# Altium schematic symbol library HyTechDevices.SCHLIB: 241 symbols (part 2 of 4)
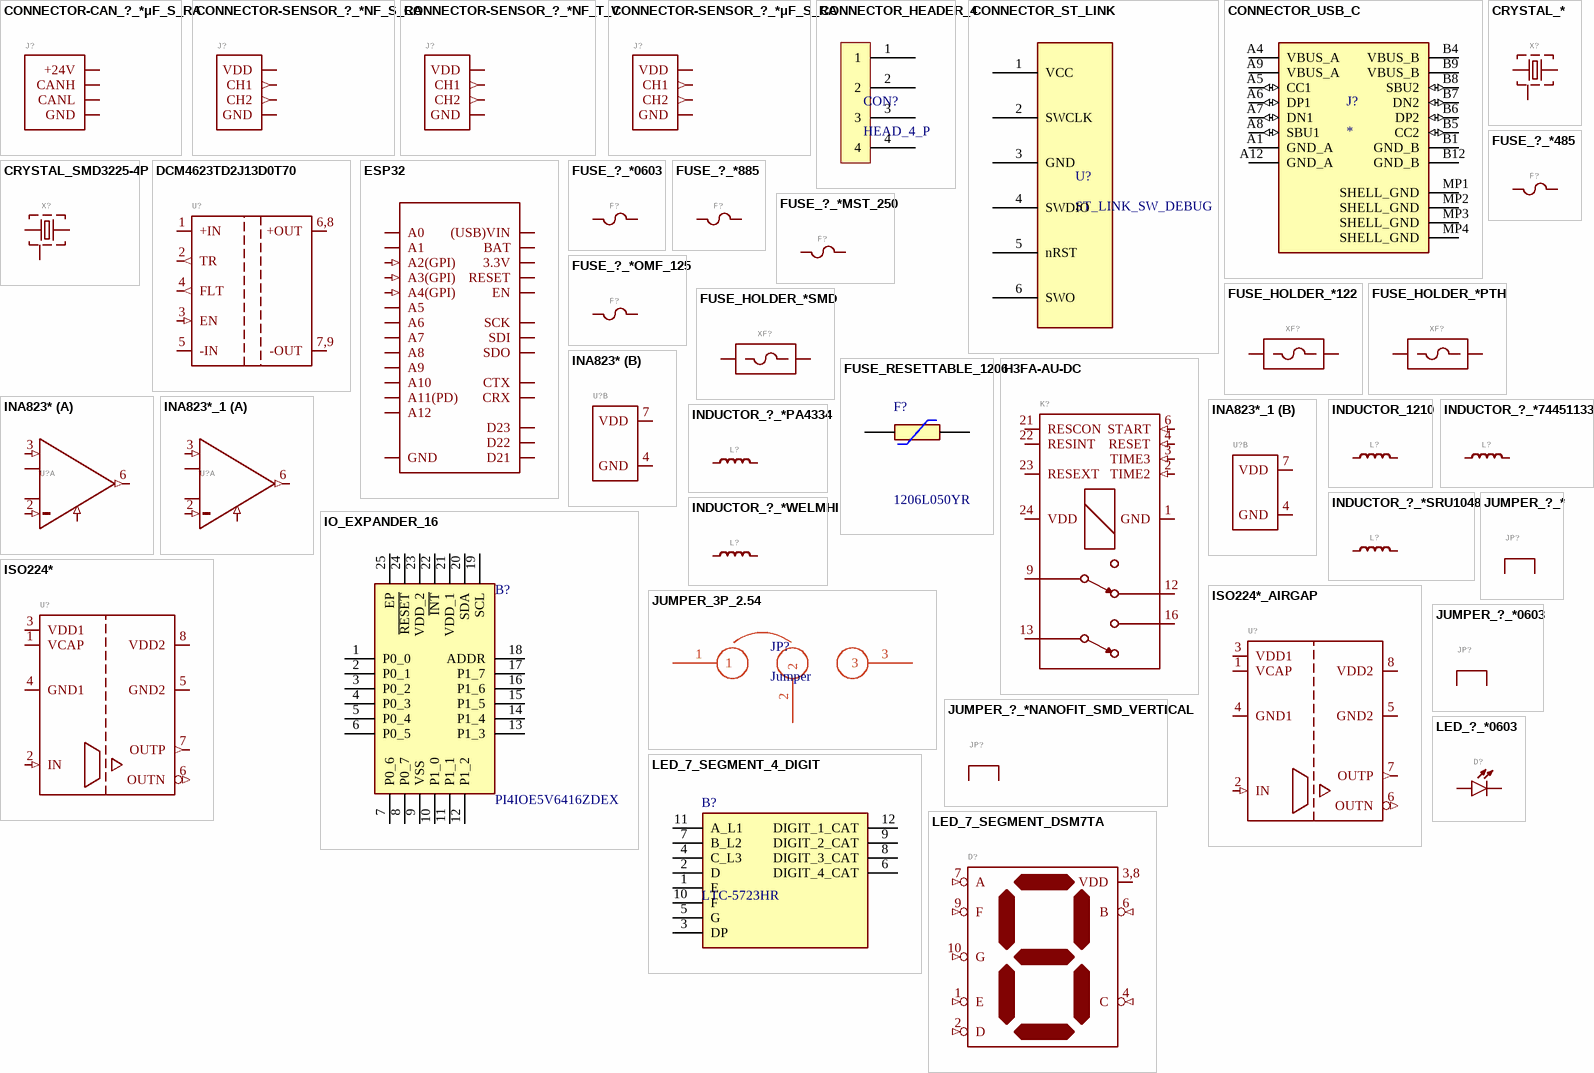
[diagram p8: symbols CONNECTOR-CAN_?_*μF_S_RA to LED_?_*0603]

## INA823*_1
designator U?, comment INA823 Precision, Low-Power, Wide-Supply (2.7-V to 36-V) Instrumentation Amplifier  Datasheet  (value not drawn)
MANUFACTURER: Texas Instruments; MPN: INA823DT; GateName_1: A; SymbolName_1: OPAMP-1; GateName_2: P; SymbolName_2: PWR_GND; DeviceSetName: INA823*; DKPN: 296-INA823DTCT-ND; MOPN: 595-INA823DT; LibraryName: HyTechDevices; Package: SOIC-08(NARROW,0.15")
footprint SOIC-08(NARROW,0.15")
part A pins: 1 RG1 (io), 2 VIN- (in), 3 VIN+ (in), 5 VREF (in), 6 VOUT (out), 8 RG2 (io)
part B pins: 4 GND (power), 7 VDD (power)

## INDUCTOR_1210
designator L?
MANUFACTURER: Wurth Elektronik; MPN: 74437349560; GateName_1: G$1; SymbolName_1: INDUCTOR; DeviceName: WELMHI; DeviceSetName: INDUCTOR_?_*; CURRENT_RATED: 1.4A; CURRENT_SATURATION: 2A; DCR: 342mΩ; DKPN: 732-11454-2-ND; INDUCTANCE: 56µH; MOPN: 710-74437349560; TOLERANCE: 20%; LibraryName: HyTechDevices; Package: WE-LMHI
footprint 1210_IND (Inductor of 1210 Case  Size)
pins: 1, 2

## INDUCTOR_?_*74451133
designator L?, comment Inductor  LQM18DH100M70 Datasheet   74451133 Datasheet  SRU1408 Datasheet  PA4334 Datasheet  WE-LMHI Datasheet  (value not drawn)
MANUFACTURER: Pulse Electronics Power; MPN: PA4334.362NLT; MANUFACTURER: Würth Elektronik; MPN: 74437349560; GateName_1: G$1; DeviceSetName: INDUCTOR_?_*; CURRENT_RATED: 1.6A; CURRENT_SATURATION: 1A; DCR: 0.13Ω; DKPN: 553-3508-2-ND; INDUCTANCE: 3.6μH; MOPN: 673-PA4334362NLT; TOLERANCE: 20%; CURRENT_RATED: 0.6A; CURRENT_SATURATION: 0.15A; DCR: 0.19Ω; DKPN: 732-1410-1-ND; INDUCTANCE: 33µH; MOPN: 710-74451133; CURRENT_RATED: 1.4A; DCR: 0.342Ω; DKPN: 732-11454-2-ND; INDUCTANCE: 56μH; MOPN: 710-74437349560; TOLERANCE: 10%; SymbolName_1: INDUCTOR; DeviceName: 74451133; LibraryName: HyTechDevices; Package: 74451133; MPN: 74451133; CURRENT_SATURATION: 1.4A
footprint 74451133
pins: 1, 2

## INDUCTOR_?_*PA4334
designator L?, comment Inductor  LQM18DH100M70 Datasheet   74451133 Datasheet  SRU1408 Datasheet  PA4334 Datasheet  WE-LMHI Datasheet  (value not drawn)
MANUFACTURER: Murata Electronics; MPN: LQM18DH100M70L; MANUFACTURER: Pulse Electonics Company; MPN: PA4334.362NLT; GateName_1: G$1; DeviceSetName: INDUCTOR_?_*; CURRENT_RATED: 300mA; CURRENT_SATURATION: 100mA; DCR: 1.37Ω; DKPN: 490-LQM18DH100M70LTR-ND; INDUCTANCE: 10µH; MOPN: 81-LQM18DH100M70L; TOLERANCE: 20%; CURRENT_RATED: 1.6A; CURRENT_SATURATION: 1A; DCR: 0.13Ω; DKPN: 553-3508-2-ND; INDUCTANCE: 3.6µH; MOPN: 673-PA4334362NLT; SymbolName_1: INDUCTOR; DeviceName: PA4334; LibraryName: HyTechDevices; Package: PA4334
footprint PA4334
pins: 1, 2

## INDUCTOR_?_*SRU1048
designator L?, comment Inductor  LQM18DH100M70 Datasheet   74451133 Datasheet  SRU1408 Datasheet  PA4334 Datasheet  WE-LMHI Datasheet  (value not drawn)
MANUFACTURER: Bourns Inc.; MPN: SRU1048-331Y; GateName_1: G$1; DeviceName: SRU1048; DeviceSetName: INDUCTOR_?_*; CURRENT_RATED: 0.65A; CURRENT_SATURATION: 0.52A; DCR: 0.640Ω; DKPN: SRU1048-331YTR-ND; INDUCTANCE: 330µH; MOPN: 652-SRU1048-331Y; TOLERANCE: 30%; SymbolName_1: INDUCTOR; LibraryName: HyTechDevices; Package: SRU1048
footprint SRU1048
pins: 1, 2

## INDUCTOR_?_*WELMHI
designator L?, comment Inductor  LQM18DH100M70 Datasheet   74451133 Datasheet  SRU1408 Datasheet  PA4334 Datasheet  WE-LMHI Datasheet  (value not drawn)
MANUFACTURER: Wurth Elektronik; MPN: 74437349560; GateName_1: G$1; DeviceName: WELMHI; DeviceSetName: INDUCTOR_?_*; CURRENT_RATED: 1.4A; CURRENT_SATURATION: 2A; DCR: 342mΩ; DKPN: 732-11454-2-ND; INDUCTANCE: 56µH; MOPN: 710-74437349560; TOLERANCE: 20%; SymbolName_1: INDUCTOR; LibraryName: HyTechDevices; Package: WE-LMHI
footprint WE-LMHI
pins: 1, 2

## IO_EXPANDER_16
designator B?, comment PI4IOE5V6416ZDEX
Interface - I/O Expanders Interface IO Expander; Manufacturer_Name: Diodes Inc.; Geometry.Height: 0.9mm; Mouser Part Number: 729-PI4IOE5V6416ZDEX; Mouser Price/Stock: https://www.mouser.co.uk/ProductDetail/Diodes-Incorporated/PI4IOE5V6416ZDEX?qs=byeeYqUIh0OndNU%2F4OrZvQ%3D%3D; Manufacturer_Part_Number: PI4IOE5V6416ZDEX; Datasheet Link: https://www.mouser.ch/datasheet/2/115/PI4IOE5V6416-1488866.pdf
footprint TQFN-24
pins: 1 P0_0, 2 P0_1, 3 P0_2, 4 P0_3, 5 P0_4, 6 P0_5, 7 P0_6, 8 P0_7, 9 VSS, 10 P1_0, 11 P1_1, 12 P1_2, 13 P1_3, 14 P1_4, 15 P1_5, 16 P1_6, 17 P1_7, 18 ADDR, 19 SCL, 20 SDA, 21 VDD_1, 22 ~{INT}, 23 VDD_2, 24 ~{RESET}, 25 EP

## ISO224*
designator U?, comment ISO224*: Isolated precision amplifier  ISO224A: Low-Grade  ISO224B: High-Grade  ISO224* Datasheet  (value not drawn)
MANUFACTURER: Texas Instruments; MPN: ISO224ADWVR; MPN: ISO224BDWVR; GateName_1: G$1; SymbolName_1: ISO224; DKPN: 296-52315-1-ND; MOPN: 595-ISO224ADWVR; DKPN: 296-52316-1-ND; MOPN: 595-ISO224BDWVR; LibraryName: HyTechDevices; DeviceSetName: ISO224*; Package: SOIC-08(WIDE,0.295")
footprint SOIC-08(WIDE,0.295")
pins: 1 VCAP, 2 IN (in), 3 VDD1 (power), 4 GND1 (power), 5 GND2 (power), 6 OUTN (out), 7 OUTP (out), 8 VDD2 (power)

## ISO224*_AIRGAP
designator U?, comment ISO224*: Isolated precision amplifier  ISO224A: Low-Grade  ISO224B: High-Grade  ISO224* Datasheet  (value not drawn)
MANUFACTURER: Texas Instruments; MPN: ISO224ADWVR; MPN: ISO224BDWVR; GateName_1: G$1; SymbolName_1: ISO224; DeviceName: _AIRGAP; DKPN: 296-52315-1-ND; MOPN: 595-ISO224ADWVR; DKPN: 296-52316-1-ND; MOPN: 595-ISO224BDWVR; LibraryName: HyTechDevices; DeviceSetName: ISO224*; Package: SOIC-08(WIDE,0.295")-AIRGAP
footprint SOIC-08(WIDE,0.295")-AIRGAP
pins: 1 VCAP, 2 IN (in), 3 VDD1 (power), 4 GND1 (power), 5 GND2 (power), 6 OUTN (out), 7 OUTP (out), 8 VDD2 (power)

## JUMPER_3P_2.54
designator JP?, comment Jumper
A standard 2.54 pitch header with three pins used as a jumper
footprint 1X03
pins: 1, 2, 3

## JUMPER_?_*
designator JP?, comment 2 Pin Connector  (value not drawn)
MANUFACTURER: Sullins Connector Solutions; MPN: PRPC002SAAN-RC; GateName_1: G$1; SymbolName_1: JUMPER; DeviceSetName: JUMPER_?_*; DKPN: S1011EC-02-ND; LibraryName: HyTechDevices; Package: 1X02
footprint 1X02
pins: 1, 2

## JUMPER_?_*0603
designator JP?, comment 2 Pin Connector  (value not drawn)
MANUFACTURER: YAGEO; MPN: RC0603FR-130RL; GateName_1: G$1; SymbolName_1: JUMPER; DeviceName: 0603; DeviceSetName: JUMPER_?_*; DKPN: 13-RC0603FR-130RLTR-ND; MOPN: 603-RC0603FR-130RL; LibraryName: HyTechDevices; Package: 0603-RES
footprint 0603-RES
pins: 1, 2

## JUMPER_?_*NANOFIT_SMD_VERTICAL
designator JP?, comment 2 Pin Connector  (value not drawn)
MANUFACTURER: Molex; MPN: 105429-1304; MPN: 105431-2302; GateName_1: G$1; SymbolName_1: JUMPER; DeviceName: NANOFIT_SMD_VERTICAL; DeviceSetName: JUMPER_?_*; DKPN: 900-1054291304TR-ND; MOPN: 538-105429-1304; DKPN: 900-1054312302TR-ND; MOPN: 538-105431-2302; LibraryName: HyTechDevices; Package: MOLEX_NANOFIT_SMD_VERTICAL_02
footprint MOLEX_NANOFIT_SMD_VERTICAL_02
pins: 1, 2

## LED_7_SEGMENT_4_DIGIT
designator B?, comment LTC-5723HR
LED Displays & Accessories 4 Digit, Red Normal Current, Common  Cathode; Manufacturer_Name: Lite-On; Manufacturer_Part_Number: LTC-4627JR; Geometry.Height: 7.25mm; Mouser Part Number: 859-LTC-4627JR; Mouser Price/Stock: https://www.mouser.co.uk/ProductDetail/Lite-On/LTC-4627JR?qs=WxFF5lh7QM3%252BoGt5Rn2nWQ%3D%3D; Datasheet Link: https://componentsearchengine.com/Datasheets/1/LTC-4627JR.pdf
footprint 7SEGMENT_DISP_12_P_TH
pins: 1 E, 2 D, 3 DP, 4 C_L3, 5 G, 6 DIGIT_4_CAT, 7 B_L2, 8 DIGIT_3_CAT, 9 DIGIT_2_CAT, 10 F, 11 A_L1, 12 DIGIT_1_CAT

## LED_7_SEGMENT_DSM7TA
designator D?, comment Low-Profile 7-Segment Display   DSM7T  Blue  DSM7T  Green <\ul>  (value not drawn)
MANUFACTURER: Visual Communications Company; MPN: DSM7TA56106T; MPN: DSM7TA56105T; GateName_1: G$1; SymbolName_1: DIODE_LED_7_SEGMENT; DeviceName: DSM7TA; DeviceSetName: LED_7_SEGMENT_; DKPN: DSM7TA56106TTR-ND; MOPN: 593-DSM7TA56106T; DKPN: DSM7TA56105TTR-ND; MOPN: 593-DSM7TA56105T; LibraryName: HyTechDevices; Package: DSM7T; COLOR: Blue; COLOR: Green
footprint DSM7T
pins: 1 E (in), 2 D (in), 3,8 VDD (power), 4 C (in), 6 B (in), 7 A (in), 9 F (in), 10 G (in)

## LED_?_*0603
designator D?, comment LED 0603  Blue  Green  Orange  Red  White  Yellow    2835 (Series not on Digikey)  Lumiled LUXEON 2835 Color Line  (value not drawn)
MANUFACTURER: Kingbright; MPN: APT1608VBC/D; MPN: APT1608ZGCK; MPN: APT1608SECK; MPN: APT1608SECK/J3-PRV; MANUFACTURER: Bivar Inc.; MPN: SM0603UWC; MPN: APT1608SYCK/J3-PRV; SymbolName_1: DIODE_LED; DeviceName: 0603; DeviceSetName: LED_?_*; DKPN: 754-1789-1-ND; MOPN: 604-APT1608VBC/D; DKPN: 754-1790-1-ND; MOPN: 604-APT1608ZGCK; DKPN: 754-1120-1-ND; MOPN: 604-APT1608SECK; DKPN: 754-1786-1-ND; MOPN: 604-APT1608SECKJ3PRV; DKPN: SM0603UWC-ND; MOPN: 749-SM0603UWC; DKPN: 754-1788-1-ND; MOPN: 604-APT1608SYCK/J3-PRV; GateName_1: LED; LibraryName: HyTechDevices; Package: 0603-LED; COLOR: Blue; COLOR: Green; COLOR: Orange; COLOR: Red; COLOR: White; COLOR: Yellow
footprint 0603-LED
pins: 1 C, 2 A

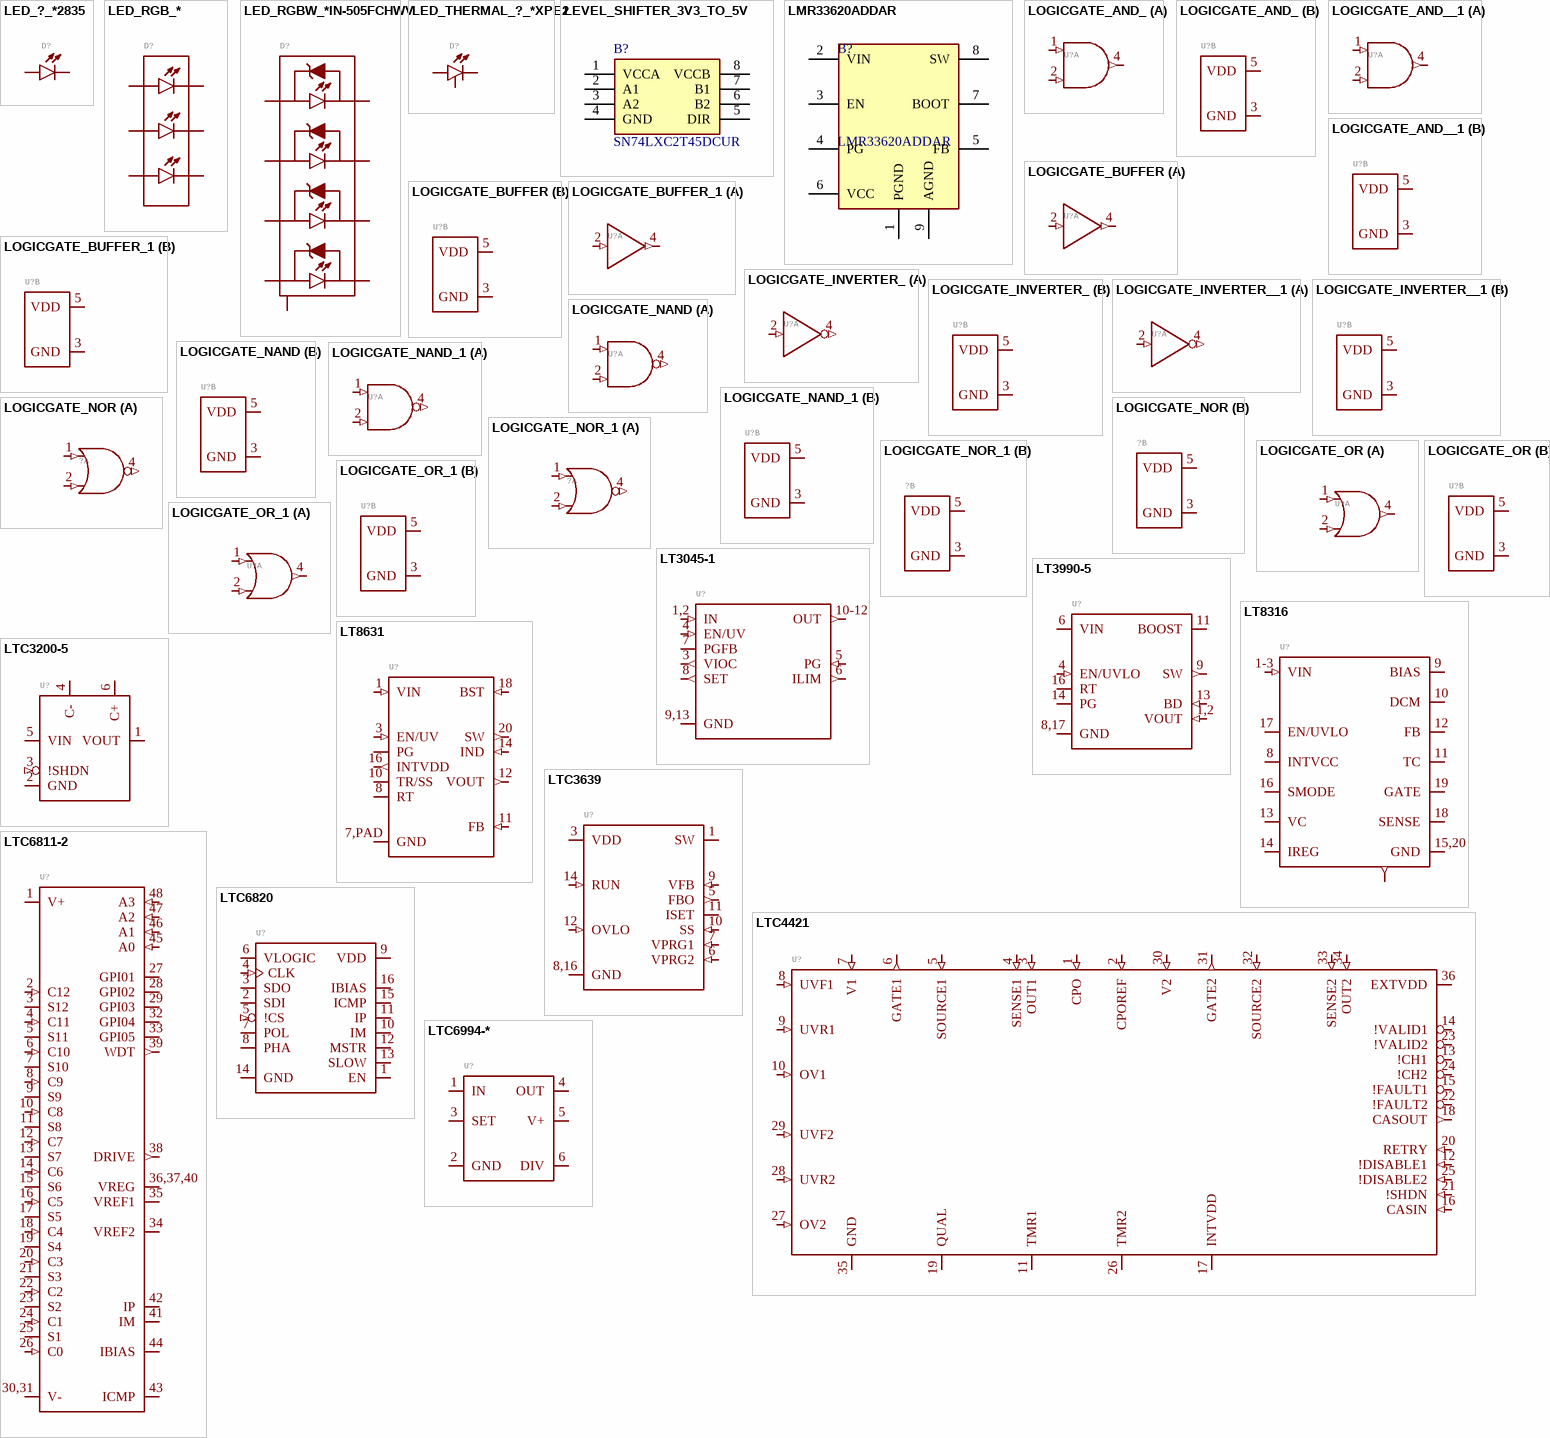
[diagram p3: symbols LED_?_*2835 to LTC6994-*]

## LED_?_*2835
designator D?, comment LED 0603  Blue  Green  Orange  Red  White  Yellow    2835 (Series not on Digikey)  Lumiled LUXEON 2835 Color Line  (value not drawn)
MANUFACTURER: Lumileds; MPN: L128-PCA1003500000; MPN: L128-BLU1003500000; MPN: L128-GRN1003500000; MPN: L128-RED1003500000; MPN: L128-RNG1003500000; SymbolName_1: DIODE_LED; DeviceName: 2835; DeviceSetName: LED_?_*; COLOR: Amber; MOPN: 997-L128PCA10350; MOPN: 997-L128BLU10350; MOPN: 997-L128GRN10350; MOPN: 997-L128RED10350; COLOR: Red-Orange; MOPN: 997-L128RNG10350; GateName_1: LED; LibraryName: HyTechDevices; Package: 2835-LED; COLOR: Blue; COLOR: Green; COLOR: Red
footprint 2835-LED
pins: A, C

## LED_RGB_*
designator D?, comment Broadcom ASMG-PT00-00001 RGB LED   Datasheet< /a>  (value not drawn)
MANUFACTURER: Broadcom Limited; GateName_1: G$1; SymbolName_1: DIODE_LED_RGB; DeviceSetName: LED_RGB_*; DKPN: 516-4178-2-ND; MOPN: 630-ASMG-PT00-00001; LibraryName: HyTechDevices; Package: ASMG-PT00-00001; COLOR: RGB; MPN: ASMG-PT00-00001
footprint ASMG-PT00-00001
pins: 1 RED-, 2 GREEN-, 3 BLUE-, 4,THERMAL RED+, 5 GREEN+, 6 BLUE+

## LED_RGBW_*IN-505FCHWV
designator D?, comment Inolux IN-505FCHWV RGBW LED   Datasheet< /a>  (value not drawn)
GateName_1: G$1; SymbolName_1: DIODE_LED_RGBW; DeviceSetName: LED_RGBW_*; DKPN: 1830-1097-2-ND; MOPN: 743-IN-505FCHWV; DeviceName: IN-505FCHWV; LibraryName: HyTechDevices; Package: IN-505FCHWV; COLOR: RGBW; MANUFACTURER: INOLUX; MPN: IN-505FCHWV
footprint IN-505FCHWV
pins: A+ RED+, A- RED-, B+ GREEN+, B- GREEN-, C+ BLUE+, C- BLUE-, D+ WHITE+, D- WHITE-, THERMAL

## LED_THERMAL_?_*XPE2
designator D?, comment LED with Thermal Pad  Cree XP-E2 Datasheet  (value not drawn)
MANUFACTURER: Cree Inc.; MPN: XPEBBL-L1-0000-00305; MPN: XPEBGR-L1-0000-00F02; MPN: XPEBRD-L1-0000-00902; MPN: XPEBAM-L1-0000-00903; GateName_1: G$1; SymbolName_1: DIODE_LED_THERMAL; DeviceName: XPE2; DeviceSetName: LED_THERMAL_?_*; COLOR: Blue; DKPN: XPEBBL-L1-0000-00305CT-ND; MOPN: 941-XPEBBLL10000305; COLOR: Green; DKPN: XPEBGR-L1-0000-00F02CT-ND; MOPN: 941-XPEBGRL10000F02; COLOR: Red; DKPN: XPEBRD-L1-0000-00902CT-ND; MOPN: 941-XPEBRDL100000902; COLOR: Yellow; DKPN: XPEBAM-L1-0000-00903CT-ND; MOPN: 941-XPEBAML10000903; LibraryName: HyTechDevices; Package: XP-E2
footprint XP-E2
pins: ANODE A, CATHODE C, X THERMAL

## LEVEL_SHIFTER_3V3_TO_5V
designator B?, comment SN74LXC2T45DCUR
Translation - Voltage Levels 2-bit dual supply transceiver with configurable voltage-level shifting and 3-state outputs; Manufacturer_Name: Texas Instruments; Geometry.Height: 0.9mm; Mouser Part Number: 595-SN74LXC2T45DCUR; Mouser Price/Stock: https://www.mouser.co.uk/ProductDetail/Texas-Instruments/SN74LXC2T45DCUR?qs=TCDPyi3sCW3DKJ9sPzuW6Q%3D%3D; Manufacturer_Part_Number: SN74LXC2T45DCUR; Datasheet Link: https://www.ti.com/lit/ds/symlink/sn74lxc2t45.pdf?ts=1639472823475&ref_url=https%253A%252F%252Fwww.ti.com%252Fproduct%252FSN74LXC2T45%253FkeyMatch%253DSN74LXC2T45DCUR%2526tisearch%253Dsearch-everything%2526usecase%253DOPN
footprint VSSOP-8
pins: 1 VCCA, 2 A1, 3 A2, 4 GND, 5 DIR, 6 B2, 7 B1, 8 VCCB

## LMR33620ADDAR
designator B?
Voltage Regulator 3.8V to 36V, 2A Synchronous Buck Converter With Ultra-Low EMI; Manufacturer_Name: Texas Instruments; Geometry.Height: 1.7mm; Mouser Part Number: 595-LMR33620ADDAR; Mouser Price/Stock: https://www.mouser.co.uk/ProductDetail/Texas-Instruments/LMR33620ADDAR?qs=r5DSvlrkXmJ%2FnOIMNwWq1Q%3D%3D; Manufacturer_Part_Number: LMR33620ADDAR; Datasheet Link: http://www.ti.com/lit/gpn/lmr33620
footprint SOIC-08(PowerPad)
pins: 1 PGND, 2 VIN, 3 EN, 4 PG, 5 FB, 6 VCC, 7 BOOT, 8 SW, 9 AGND

## LOGICGATE_AND_
designator U?, comment AND Gate  SN74LVC Datasheet  (value not drawn)
MANUFACTURER: Texas Instruments; MPN: SN74LVC1G08DCK3; MPN: SN74LVC1G08DCKR; GateName_1: A; SymbolName_1: LOGICGATE_AND; GateName_2: P; SymbolName_2: PWR_GND; DeviceSetName: LOGICGATE_AND_; DKPN: 296-SN74LVC1G08DCK3TR-ND; MOPN: 595-SN74LVC1G08DCK3; DKPN: 296-11602-2-ND; MOPN: 595-SN74LVC1G08DCKR; LibraryName: HyTechDevices; Package: SC-70-5
footprint SC-70-5
part A pins: 1 IN1 (in), 2 IN2 (in), 4 OUT (out)
part B pins: 3 GND (power), 5 VDD (power)

## LOGICGATE_AND__1
designator U?, comment AND Gate  SN74LVC Datasheet  (value not drawn)
MANUFACTURER: Texas Instruments; MPN: SN74LVC1G08DCK3; MPN: SN74LVC1G08DCKR; GateName_1: A; SymbolName_1: LOGICGATE_AND; GateName_2: P; SymbolName_2: PWR_GND; DeviceSetName: LOGICGATE_AND_; DKPN: 296-SN74LVC1G08DCK3TR-ND; MOPN: 595-SN74LVC1G08DCK3; DKPN: 296-11602-2-ND; MOPN: 595-SN74LVC1G08DCKR; LibraryName: HyTechDevices; Package: SC-70-5
footprint SC-70-5
part A pins: 1 IN1 (in), 2 IN2 (in), 4 OUT (out)
part B pins: 3 GND (power), 5 VDD (power)

## LOGICGATE_BUFFER
designator U?, comment Buffer  SN74LVC Datasheet  (value not drawn)
MANUFACTURER: Texas Instruments; MPN: SN74LVC1G34DCKT; GateName_1: A; SymbolName_1: LOGICGATE_BUFFER; GateName_2: P; SymbolName_2: PWR_GND; DKPN: 296-26604-2-ND; MOPN: 595-SN74LVC1G34DCKT; LibraryName: HyTechDevices; DeviceSetName: LOGICGATE_BUFFER; Package: SC-70-5
footprint SC-70-5
part A pins: 2 IN (in), 4 OUT (out)
part B pins: 3 GND (power), 5 VDD (power)

## LOGICGATE_BUFFER_1
designator U?, comment Buffer  SN74LVC Datasheet  (value not drawn)
MANUFACTURER: Texas Instruments; MPN: SN74LVC1G34DCKT; GateName_1: A; SymbolName_1: LOGICGATE_BUFFER; GateName_2: P; SymbolName_2: PWR_GND; DKPN: 296-26604-2-ND; MOPN: 595-SN74LVC1G34DCKT; LibraryName: HyTechDevices; DeviceSetName: LOGICGATE_BUFFER; Package: SC-70-5
footprint SC-70-5
part A pins: 2 IN (in), 4 OUT (out)
part B pins: 3 GND (power), 5 VDD (power)

## LOGICGATE_INVERTER_
designator U?, comment Inverter  SN74LVC Datasheet  (value not drawn)
MANUFACTURER: Texas Instruments; MPN: SN74LVC1G04DCK3; MPN: SN74LVC1G04DCKR; GateName_1: A; SymbolName_1: LOGICGATE_INVERTER; GateName_2: P; SymbolName_2: PWR_GND; DeviceSetName: LOGICGATE_INVERTER_; DKPN: 296-SN74LVC1G04DCK3TR-ND; MOPN: 595-SN74LVC1G04DCK3; DKPN: 2156-SN74LVC1G04DCKR-ND; MOPN: 595-SN74LVC1G04DCKR; LibraryName: HyTechDevices; Package: SC-70-5
footprint SC-70-5
part A pins: 2 IN (in), 4 !IN (out)
part B pins: 3 GND (power), 5 VDD (power)

## LOGICGATE_INVERTER__1
designator U?, comment Inverter  SN74LVC Datasheet  (value not drawn)
MANUFACTURER: Texas Instruments; MPN: SN74LVC1G04DCK3; MPN: SN74LVC1G04DCKR; GateName_1: A; SymbolName_1: LOGICGATE_INVERTER; GateName_2: P; SymbolName_2: PWR_GND; DeviceSetName: LOGICGATE_INVERTER_; DKPN: 296-SN74LVC1G04DCK3TR-ND; MOPN: 595-SN74LVC1G04DCK3; DKPN: 2156-SN74LVC1G04DCKR-ND; MOPN: 595-SN74LVC1G04DCKR; LibraryName: HyTechDevices; Package: SC-70-5
footprint SC-70-5
part A pins: 2 IN (in), 4 !IN (out)
part B pins: 3 GND (power), 5 VDD (power)

## LOGICGATE_NAND
designator U?, comment NAND Gate  SN74LVC Datasheet  (value not drawn)
MANUFACTURER: Texas Instruments; MPN: SN74LVC1G00MDCKREP; GateName_1: A; SymbolName_1: LOGICGATE_NAND; GateName_2: P; SymbolName_2: PWR_GND; DKPN: 296-22339-2-ND; MOPN: 595-SN74LVC00MDCKREP; LibraryName: HyTechDevices; DeviceSetName: LOGICGATE_NAND; Package: SC-70-5
footprint SC-70-5
part A pins: 1 IN1 (in), 2 IN2 (in), 4 OUT (out)
part B pins: 3 GND (power), 5 VDD (power)

## LOGICGATE_NAND_1
designator U?, comment NAND Gate  SN74LVC Datasheet  (value not drawn)
MANUFACTURER: Texas Instruments; MPN: SN74LVC1G00MDCKREP; GateName_1: A; SymbolName_1: LOGICGATE_NAND; GateName_2: P; SymbolName_2: PWR_GND; DKPN: 296-22339-2-ND; MOPN: 595-SN74LVC00MDCKREP; LibraryName: HyTechDevices; DeviceSetName: LOGICGATE_NAND; Package: SC-70-5
footprint SC-70-5
part A pins: 1 IN1 (in), 2 IN2 (in), 4 OUT (out)
part B pins: 3 GND (power), 5 VDD (power)

## LOGICGATE_NOR
designator ?, comment NOR Gate  SN74LVC Datasheet  (value not drawn)
MANUFACTURER: Texas Instruments; MPN: SN74LVC1G02DCKR; GateName_1: A; SymbolName_1: LOGICGATE_NOR; GateName_2: P; SymbolName_2: PWR_GND; DKPN: 296-11598-1-ND; MOPN: 595-SN74LVC1G02DCKR; LibraryName: HyTechDevices; DeviceSetName: LOGICGATE_NOR; Package: SC-70-5
footprint SC-70-5
part A pins: 1 IN1 (in), 2 IN2 (in), 4 OUT (out)
part B pins: 3 GND (power), 5 VDD (power)

## LOGICGATE_NOR_1
designator ?, comment NOR Gate  SN74LVC Datasheet  (value not drawn)
MANUFACTURER: Texas Instruments; MPN: SN74LVC1G02DCKR; GateName_1: A; SymbolName_1: LOGICGATE_NOR; GateName_2: P; SymbolName_2: PWR_GND; DKPN: 296-11598-1-ND; MOPN: 595-SN74LVC1G02DCKR; LibraryName: HyTechDevices; DeviceSetName: LOGICGATE_NOR; Package: SC-70-5
footprint SC-70-5
part A pins: 1 IN1 (in), 2 IN2 (in), 4 OUT (out)
part B pins: 3 GND (power), 5 VDD (power)

## LOGICGATE_OR
designator U?, comment OR Gate  SN74LVC Datasheet  (value not drawn)
MANUFACTURER: Texas Instruments; MPN: SN74LVC1G32IDCKREP; GateName_1: A; SymbolName_1: LOGICGATE_OR; GateName_2: P; SymbolName_2: PWR_GND; DKPN: 296-22348-2-ND; MOPN: 595-SN74LVC32IDCKREP; LibraryName: HyTechDevices; DeviceSetName: LOGICGATE_OR; Package: SC-70-5
footprint SC-70-5
part A pins: 1 IN1 (in), 2 IN2 (in), 4 OUT (out)
part B pins: 3 GND (power), 5 VDD (power)

## LOGICGATE_OR_1
designator U?, comment OR Gate  SN74LVC Datasheet  (value not drawn)
MANUFACTURER: Texas Instruments; MPN: SN74LVC1G32IDCKREP; GateName_1: A; SymbolName_1: LOGICGATE_OR; GateName_2: P; SymbolName_2: PWR_GND; DKPN: 296-22348-2-ND; MOPN: 595-SN74LVC32IDCKREP; LibraryName: HyTechDevices; DeviceSetName: LOGICGATE_OR; Package: SC-70-5
footprint SC-70-5
part A pins: 1 IN1 (in), 2 IN2 (in), 4 OUT (out)
part B pins: 3 GND (power), 5 VDD (power)

## LT3045-1
designator U?, comment LT3045-1 Linear Regulator with VIOC Control  Datasheet  (value not drawn)
MANUFACTURER: Analog Devices Inc.; MPN: LT3045EMSE-1#PBF; GateName_1: G$1; DKPN: LT3045EMSE-1#PBF-ND; MOPN: 584-LT3045EMSE-1#PBF; SymbolName_1: LT3045-1; LibraryName: HyTechDevices; DeviceSetName: LT3045-1; Package: MSE12
footprint MSE12
pins: 1,2 IN (in), 3 VIOC (out), 4 EN/UV (in), 5 PG (in), 6 ILIM (out), 7 PGFB (oc), 8 SET (out), 9,13 GND (power), 10-12 OUT (out)

## LT3990-5
designator U?, comment LT3990-5 DC-DC Regulator  Datasheet  (value not drawn)
MANUFACTURER: Analog Devices Inc.; MPN: LT3990EMSE-5#PBF; GateName_1: G$1; DKPN: LT3990EMSE-5#PBF-ND; MOPN: 584-LT3990EMSE-5#PBF; SymbolName_1: LT3990-5; LibraryName: HyTechDevices; DeviceSetName: LT3990-5; Package: MSE16
footprint MSE16
pins: 1,2 VOUT (in), 4 EN/UVLO (in), 6 VIN (power), 8,17 GND (power), 9 SW (out), 11 BOOST, 13 BD (in), 14 PG, 16 RT

## LT8316
designator U?, comment LT8316 560VIN Micropower No-Opto Isolated Flyback Controller  Datasheet  (value not drawn)
MANUFACTURER: Analog Devices; MPN: LT8316EFE#PBF; GateName_1: G$1; DKPN: 505-LT8316EFE#PBF-ND; MOPN: 584-LT8316EFE#PBF; SymbolName_1: LT8316; LibraryName: HyTechDevices; DeviceSetName: LT8316; Package: TSSOP-20(16)
footprint TSSOP-20(16)
pins: 1-3 VIN (in), 8 INTVCC (io), 9 BIAS (io), 10 DCM (io), 11 TC (io), 12 FB (io), 13 VC (io), 14 IREG (io), 15,20 GND (io), 16 SMODE (io), 17 EN/UVLO (io), 18 SENSE (io), 19 GATE (io), THERMAL P$1 (out)

## LT8631
designator U?, comment LT8631 100V, 1A DC-DC Regulator  Datasheet  (value not drawn)
MANUFACTURER: Analog Devices Inc.; MPN: LT8631EFE#TRPBF; GateName_1: G$1; DKPN: LT8631EFE#TRPBFCT-ND; MOPN: 584-LT8631EFE#PBF; SymbolName_1: LT8631; LibraryName: HyTechDevices; DeviceSetName: LT8631; Package: FE20(16)
footprint FE20(16)
pins: 1 VIN (in), 3 EN/UV (in), 7,PAD GND (power), 8 RT, 10 TR/SS, 11 FB (in), 12 VOUT (out), 14 IND (in), 16 INTVDD (out), 18 BST (in), 20 SW (out), ?1 PG (oc)

## LTC3200-5
designator U?, comment LTC3200-5 Low Noise, Charge Pump DC-DC Regulator  Datasheet Produces a regulated output voltage from a 2.7V to 4.5V input with up to 100mA of output current   *Notes:  - Flying capacitors connected to pins 4 (C-) and 6 (C+) must have at least 0.68 uF of capacitance in order to achieve the rated output current  - Pins 1 (Vin) and 5 (Vout) both need to be bypassed with capacitors with capacitance >=0.47 uF  - Pins 5 (Vout) and 3 (!SHDN) should have connected inputs  (value not drawn)
MANUFACTURER: Analog Devices Inc.; MPN: LTC3200ES6-5#TRPBF; GateName_1: G$1; DKPN: LTC3200ES6-5#TRPBFTR-ND; MOPN: 584-C3200ES6-5TRPBF; SymbolName_1: LTC3200-5; LibraryName: HyTechDevices; DeviceSetName: LTC3200-5; Package: SOT-23-6
footprint SOT-23-6
pins: 1 VOUT (power), 2 GND (power), 3 !SHDN (in), 4 C- (io), 5 VIN (power), 6 C+ (io)

## LTC3639
designator U?, comment LTC3639 DC-DC Regulator  Datasheet  (value not drawn)
MANUFACTURER: Analog Devices Inc.; MPN: LTC3639EMSE#TRPBF; GateName_1: G$1; DKPN: LTC3639EMSE#TRPBFTR-ND; MOPN: 584-LTC3639EMSETRPBF; SymbolName_1: LTC3639; LibraryName: HyTechDevices; DeviceSetName: LTC3639; Package: MSE16(12)
footprint MSE16(12)
pins: 1 SW (power), 3 VDD (power), 5 FBO (out), 6 VPRG2 (in), 7 VPRG1 (in), 8,16 GND (power), 9 VFB (in), 10 SS (in), 11 ISET (io), 12 OVLO (in), 14 RUN (in)

## LTC4421
designator U?, comment LTC4421 Dual Supply Prioritizer  Datasheet  (value not drawn)
MANUFACTURER: Analog Devices Inc.; MPN: LTC4421CG#PBF; GateName_1: G$1; DKPN: 161-LTC4421CG#PBF-ND; MOPN: 584-LTC4421CG#PBF; SymbolName_1: LTC4421; LibraryName: HyTechDevices; DeviceSetName: LTC4421; Package: SSOP-36
footprint SSOP-36
pins: 1 CPO (in), 2 CPOREF (in), 3 OUT1 (in), 4 SENSE1 (in), 5 SOURCE1 (in), 6 GATE1 (out), 7 V1 (in), 8 UVF1 (in), 9 UVR1 (in), 10 OV1 (in), 11 TMR1 (io), 12 !DISABLE1 (in), 13 !CH1 (oc), 14 !VALID1 (oc), 15 !FAULT1 (oc), 16 CASIN (in), 17 INTVDD (power), 18 CASOUT (out), 19 QUAL (io), 20 RETRY (in), 21 !SHDN (in), 22 !FAULT2 (oc), 23 !VALID2 (oc), 24 !CH2 (oc), 25 !DISABLE2 (in), 26 TMR2 (io), 27 OV2 (in), 28 UVR2 (in), 29 UVF2 (in), 30 V2 (in), 31 GATE2 (out), 32 SOURCE2 (in), 33 SENSE2 (in), 34 OUT2 (in), 35 GND (power), 36 EXTVDD (power)

## LTC6811-2
designator U?, comment LTC6811-2 12 Cell Stackable Battery Monitor  Datasheet  (value not drawn)
MANUFACTURER: Analog Devices Inc.; MPN: LTC6811IG-2#3ZZPBF; GateName_1: G$1; DKPN: LTC6811IG-2#3ZZPBF-ND; MOPN: 584-6811IG-2#3ZZPB; SymbolName_1: LTC6811-2; LibraryName: HyTechDevices; DeviceSetName: LTC6811-2; Package: SSOP-48
footprint SSOP-48
pins: 1 V+ (power), 2 C12 (in), 3 S12 (io), 4 C11 (in), 5 S11 (io), 6 C10 (in), 7 S10 (io), 8 C9 (in), 9 S9 (io), 10 C8 (in), 11 S8 (io), 12 C7 (in), 13 S7 (io), 14 C6 (in), 15 S6 (io), 16 C5 (in), 17 S5 (io), 18 C4 (in), 19 S4 (io), 20 C3 (in), 21 S3 (io), 22 C2 (in), 23 S2 (io), 24 C1 (in), 25 S1 (io), 26 C0 (in), 27 GPI01 (io), 28 GPI02 (io), 29 GPI03 (io), 30,31 V- (power), 32 GPI04 (io), 33 GPI05 (io), 34 VREF2 (power), 35 VREF1 (power), 36,37,40 VREG (power), 38 DRIVE (out), 39 WDT (out), 41 IM (io), 42 IP (io), 43 ICMP (io), 44 IBIAS (io), 45 A0 (in), 46 A1 (in), 47 A2 (in), 48 A3 (in)

## LTC6820
designator U?, comment LTC6820 isoSPI Isolated Communications Interface  Datasheet  (value not drawn)
MANUFACTURER: Analog Devices; MPN: LTC6820IMS#PBF; GateName_1: G$1; SymbolName_1: LTC6820; LibraryName: HyTechDevices; DeviceSetName: LTC6820; Package: MSOP-16
footprint MSOP-16
pins: 1 EN, 2 SDI (oc), 3 SDO (oc), 4 CLK (in), 5 !CS (in), 6 VLOGIC (io), 7 POL, 8 PHA, 9 VDD (power), 10 IM (io), 11 IP (io), 12 MSTR, 13 SLOW, 14 GND (power), 15 ICMP (io), 16 IBIAS (io)

## LTC6994-*
designator U?, comment Analog Devices Inc Delay IC  1us to 33.6s  Datasheet  (value not drawn)
MANUFACTURER: Analog Devices Incorporated; MPN: LTC6994CS6-1#TRMPBF; GateName_1: G$1; SymbolName_1: LTC6994; DeviceSetName: LTC6994-*; DKPN: 505-LTC6994CS6-1#TRMPBFTR-ND; MOPN: 584-C6994CS6-1TRMPBF; LibraryName: HyTechDevices; Package: SOT-23-6
footprint SOT-23-6
pins: 1 IN (io), 2 GND (power), 3 SET (io), 4 OUT (io), 5 V+ (power), 6 DIV (io)

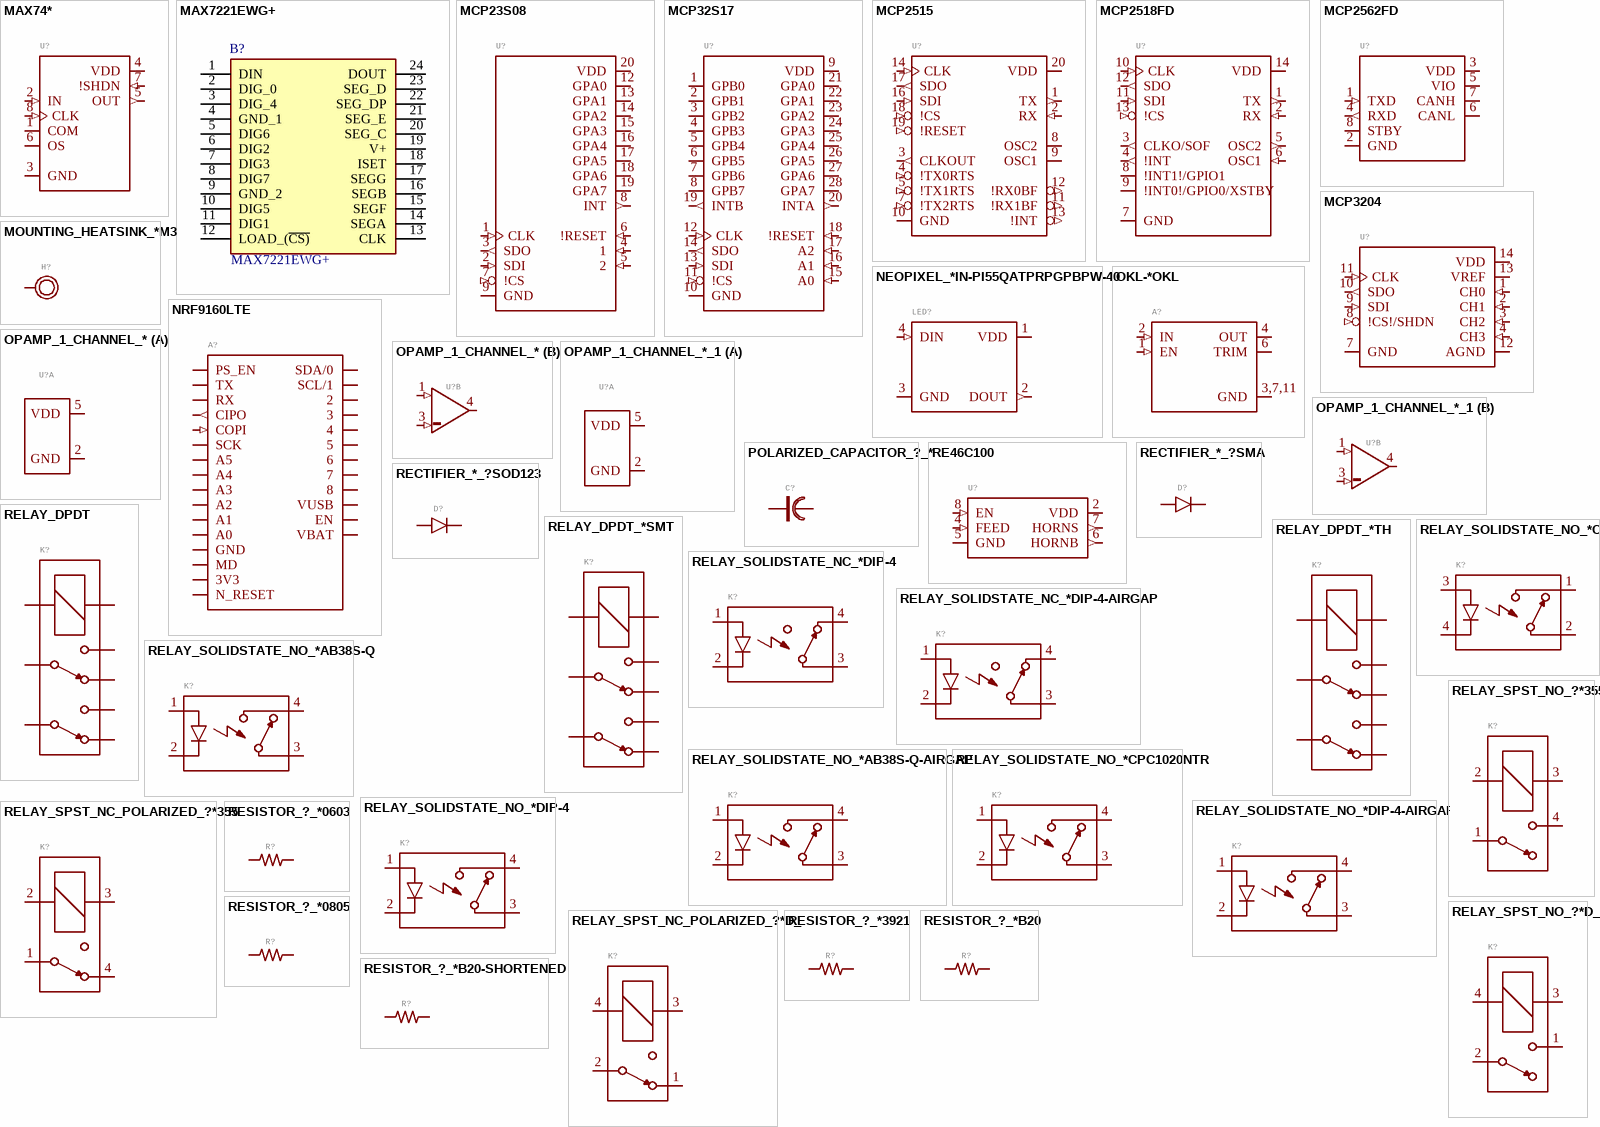
[diagram p4: symbols MAX74* to RESISTOR_?_*B20-SHORTENED]

## MAX74*
designator U?, comment 8th-Order Maxim Filter  MAX7480 Datasheet MAX7400 Datsheet Recommended clock capacitor for the MAX7400/MAX7404:  885012006013  (value not drawn)
MANUFACTURER: Maxim Integrated; MPN: MAX7400CSA+; MPN: MAX7404CSA+; GateName_1: G$1; SymbolName_1: MAX74XX; DeviceSetName: MAX74*; DKPN: MAX7400CSA+-ND; MOPN: 700-MAX7400CSA; DKPN: MAX7404CSA+-ND; MOPN: 700-MAX7404CSA; LibraryName: HyTechDevices; Package: SOIC-08(NARROW,0.15")
footprint SOIC-08(NARROW,0.15")
pins: 1 COM (io), 2 IN (in), 3 GND (power), 4 VDD (power), 5 OUT (out), 6 OS (io), 7 !SHDN (in), 8 CLK (in)

## MAX7221EWG+
designator B?
MAX7221EWG+, LED Display Driver, 8-Digits 64-Segments, 4  5.5 V, 24-Pin SOIC W; Manufacturer_Name: Analog Devices; Geometry.Height: 2.65mm; Mouser Part Number: 700-MAX7221EWG; Mouser Price/Stock: https://www.mouser.co.uk/ProductDetail/Analog-Devices-Maxim-Integrated/MAX7221EWG%2b?qs=1THa7WoU59EcwjgGV%252Bu7MA%3D%3D; Manufacturer_Part_Number: MAX7221EWG+; Datasheet Link: http://datasheets.maximintegrated.com/en/ds/MAX7219-MAX7221.pdf
footprint SOIC-24
pins: 1 DIN, 2 DIG_0, 3 DIG_4, 4 GND_1, 5 DIG6, 6 DIG2, 7 DIG3, 8 DIG7, 9 GND_2, 10 DIG5, 11 DIG1, 12 LOAD_(~{CS)}, 13 CLK, 14 SEGA, 15 SEGF, 16 SEGB, 17 SEGG, 18 ISET, 19 V+, 20 SEG_C, 21 SEG_E, 22 SEG_DP, 23 SEG_D, 24 DOUT

## MCP23S08
designator U?, comment IO Expander 8 Channel  Datasheet  (value not drawn)
MANUFACTURER: Microchip Technology; MPN: MCP23S08-E/SS; GateName_1: G$1; SymbolName_1: MCP23S08; DKPN: MCP23S08-E/SS-ND; MOPN: 579-MCP23S08-E/SS; LibraryName: HyTechDevices; DeviceSetName: MCP23S08; Package: SSOP-20
footprint SSOP-20
pins: 1 CLK (in), 2 SDI (in), 3 SDO (out), 4 1 (in), 5 2 (in), 6 !RESET (in), 7 !CS (in), 8 INT (out), 9 GND (power), 12 GPA0 (io), 13 GPA1 (io), 14 GPA2 (io), 15 GPA3 (io), 16 GPA4 (io), 17 GPA5 (io), 18 GPA6 (io), 19 GPA7 (io), 20 VDD (power)

## MCP32S17
designator U?, comment IO Expander 16 Channel  Datasheet  (value not drawn)
MANUFACTURER: Microchip Technology; MPN: MCP23S17T-E/SS; GateName_1: G$1; SymbolName_1: MCP23S17; DeviceSetName: MCP32S17; DKPN: MCP23S17T-E/SSCT-ND; MOPN: 579-MCP23S17T-E/SS; LibraryName: HyTechDevices; Package: SSOP-28
footprint SSOP-28
pins: 1 GPB0 (io), 2 GPB1 (io), 3 GPB2 (io), 4 GPB3 (io), 5 GPB4 (io), 6 GPB5 (io), 7 GPB6 (io), 8 GPB7 (io), 9 VDD (power), 10 GND (power), 11 !CS (in), 12 CLK (in), 13 SDI (in), 14 SDO (out), 15 A0 (in), 16 A1 (in), 17 A2 (in), 18 !RESET (in), 19 INTB (out), 20 INTA (out), 21 GPA0 (io), 22 GPA1 (io), 23 GPA2 (io), 24 GPA3 (io), 25 GPA4 (io), 26 GPA5 (io), 27 GPA6 (io), 28 GPA7 (io)

## MCP2515
designator U?, comment MCP2515 Can Controller  Datasheet  (value not drawn)
MANUFACTURER: Microchip Technology; MPN: MCP2515-E/ST; GateName_1: G$1; DKPN: MCP2515-E/ST-ND; MOPN: 579-MCP2515-E/ST; SymbolName_1: MCP2515; LibraryName: HyTechDevices; DeviceSetName: MCP2515; Package: TSSOP-20
footprint TSSOP-20
pins: 1 TX (out), 2 RX (in), 3 CLKOUT (out), 4 !TX0RTS (in), 5 !TX1RTS (in), 7 !TX2RTS (in), 8 OSC2 (io), 9 OSC1 (io), 10 GND (power), 11 !RX1BF (out), 12 !RX0BF (out), 13 !INT (out), 14 CLK (in), 16 SDI (in), 17 SDO (out), 18 !CS (in), 19 !RESET (in), 20 VDD (power)

## MCP2518FD
designator U?, comment MCP2518FD Can Controller  Datasheet  (value not drawn)
MANUFACTURER: Microchip Technology; MPN: MCP2518FDT-E/SL; GateName_1: G$1; DKPN: MCP2518FDT-E/SLCT-ND; MOPN: 579-MCP2518FDT-E/SL; SymbolName_1: MCP2518FD; LibraryName: HyTechDevices; DeviceSetName: MCP2518FD; Package: SOIC-14
footprint SOIC-14
pins: 1 TX (out), 2 RX (in), 3 CLKO/SOF (out), 4 !INT (out), 5 OSC2 (out), 6 OSC1 (in), 7 GND (power), 8 !INT1!/GPIO1 (io), 9 !INT0!/GPIO0/XSTBY (io), 10 CLK (in), 11 SDI (in), 12 SDO (out), 13 !CS (in), 14 VDD (power)

## MCP2562FD
designator U?, comment MCP2562FD Can Tranciever  Datasheet  (value not drawn)
ALT_MANUFACTURER: Microchip Technology; ALT_MPN: MCP2562-E/SN; MPN: MCP2562FD-E/SN; GateName_1: G$1; SymbolName_1: CAN_TRANSCIEVER_MCP2562FD; ALT_DKPN: MCP2562-E/SN-ND; ALT_MOPN: 579-MCP2562-E/SN; DKPN: MCP2562FD-E/SN-ND; MOPN: 579-MCP2562FD-E/SN; LibraryName: HyTechDevices; DeviceSetName: MCP2562FD; Package: SOIC-08(NARROW,0.15"); MANUFACTURER: Microchip Technology
footprint SOIC-08(NARROW,0.15")
pins: 1 TXD (in), 2 GND (power), 3 VDD (power), 4 RXD (out), 5 VIO (power), 6 CANL (io), 7 CANH (io), 8 STBY

## MCP3204
designator U?, comment MCP3204 4-Channel ADC  Datasheet  (value not drawn)
MANUFACTURER: Microchip Technology; MPN: MCP3204-BI/SL; GateName_1: G$1; DKPN: MCP3204-BI/SL-ND; MOPN: 579-MCP3204-BI/SL; SymbolName_1: MCP3204; LibraryName: HyTechDevices; DeviceSetName: MCP3204; Package: SOIC-14
footprint SOIC-14
pins: 1 CH0 (in), 2 CH1 (in), 3 CH2 (in), 4 CH3 (in), 7 GND (power), 8 !CS!/SHDN (in), 9 SDI (in), 10 SDO (out), 11 CLK (in), 12 AGND (power), 13 VREF (power), 14 VDD (power)

## MOUNTING_HEATSINK_*M3
designator H?, comment M3 Mounting Hole  Datasheet  (value not drawn)
GateName_1: G$1; SymbolName_1: MOUNTING_HEATSINK; DeviceSetName: MOUNTING_HEATSINK_*; DeviceName: M3; LibraryName: HyTechDevices; Package: MOUNTING_M3
footprint MOUNTING_M3
pins: 1

## NEOPIXEL_*IN-PI55QATPRPGPBPW-40
designator LED?, comment IN-PI55QATPRPGPBPW-40  Neopixel RGBW LED  Datasheet  (value not drawn)
MANUFACTURER: Inolux; GateName_1: G$1; DeviceSetName: NEOPIXEL_*; DKPN: 1830-1210-2-ND; MOPN: 743-I55QATPRPGPBPW40; SymbolName_1: NEOPIXEL; DeviceName: IN-PI55QATPRPGPBPW-40; LibraryName: HyTechDevices; Package: NEOPIXEL; MPN: IN-PI55QATPRPGPBPW-40
footprint NEOPIXEL
pins: 1 VDD (power), 2 DOUT (out), 3 GND (power), 4 DIN (in)

## NRF9160LTE
designator A?, comment SparkFun Thing Plus - nRF9160 LTE module  Datasheet Sparkfun link  (value not drawn)
MANUFACTURER: SparkFun Electronics; MPN: WRL-17354; GateName_1: G$1; DKPN: 1568-WRL-17354-ND; MOPN: 474-WRL-17354; SymbolName_1: NRF9160; LibraryName: HyTechDevices; DeviceSetName: NRF9160LTE; Package: NRF9160LTE
footprint NRF9160LTE
pins: 2 (io), 3 (io), 3V3 (power), 4 (io), 5 (io), 6 (io), 7 (io), 8 (io), A0 (io), A1 (io), A2 (io), A3 (io), A4 (io), A5 (io), CIPO (out), COPI (in), EN (io), GND (power), MD (io), PS-EN PS_EN (io), RESET N_RESET (io), RX (io), SCK (io), SCL/1 (io), SDA/0 (io), TX (io), VBAT (power), VUSB (io)

## OKL-*OKL
designator A?, comment Point of Load Voltage Regulator Modules  OKL-T/1-W12 Datasheet  (value not drawn)
MANUFACTURER: Murata Power Solutions Inc.; MPN: OKL-T/1-W12N-C; GateName_1: G$1; SymbolName_1: VOLTAGE_REGULATOR_TRIM; DeviceName: OKL; DeviceSetName: OKL-*; DKPN: 811-2260-2-ND; MOPN: 580-OKL-T/1-W12N-C; VIN: 12V; VOUT: 5V; LibraryName: HyTechDevices; Package: OKL-T/1-W12
footprint OKL-T/1-W12
pins: 1 EN (in), 2 IN (in), 3,7,11 GND (power), 4 OUT (power), 6 TRIM

## OPAMP_1_CHANNEL_*
designator U?, comment Op-Amp 1 Channel  OPA991 Datasheet Note: OPA991 is also a comparator  (value not drawn)
MANUFACTURER: Texas Instruments; MPN: OPA991IDCKR; GateName_1: P; SymbolName_1: PWR_GND; SymbolName_2: OPAMP; DeviceSetName: OPAMP_1_CHANNEL_*; DKPN: 296-OPA991IDCKRCT-ND; MOPN: 595-OPA991IDCKR; GateName_2: A; LibraryName: HyTechDevices; Package: SC-70-5
footprint SC-70-5
part A pins: 2 GND (power), 5 VDD (power)
part B pins: 1 VIN+ (in), 3 VIN- (in), 4 VOUT (out)

## OPAMP_1_CHANNEL_*_1
designator U?, comment Op-Amp 1 Channel  OPA991 Datasheet Note: OPA991 is also a comparator  (value not drawn)
MANUFACTURER: Texas Instruments; MPN: OPA991IDCKR; GateName_1: P; SymbolName_1: PWR_GND; SymbolName_2: OPAMP; DeviceSetName: OPAMP_1_CHANNEL_*; DKPN: 296-OPA991IDCKRCT-ND; MOPN: 595-OPA991IDCKR; GateName_2: A; LibraryName: HyTechDevices; Package: SC-70-5
footprint SC-70-5
part A pins: 2 GND (power), 5 VDD (power)
part B pins: 1 VIN+ (in), 3 VIN- (in), 4 VOUT (out)

## POLARIZED_CAPACITOR_?_*
designator C?
MANUFACTURER: United Chemi-con; MPN: EKYC250ELL362ML20S; GateName_1: G$1; SymbolName_1: CAPACITOR_POLARIZED; DeviceSetName: POLARIZED_CAPACITOR_?_*; CAPACITANCE: 3600μF; DKPN: 565-EKYC250ELL362ML20S-ND; MOPN: 661-YC250ELL362ML20S; VOLTAGE: 25V; LibraryName: HyTechDevices; Package: EKYC*MM
footprint EKYC*MM
pins: + PLUS, - MINUS

## RE46C100
designator U?, comment RE46C100 Piezoelectric Horn Driver IC  Datasheet  (value not drawn)
MANUFACTURER: Microchip Technology; MPN: RE46C100S8TF; GateName_1: G$1; DKPN: RE46C100S8TFTR-ND; MOPN: 579-RE46C100S8TF; SymbolName_1: RE46C100; LibraryName: HyTechDevices; DeviceSetName: RE46C100; Package: SOIC-08(NARROW,0.15")
footprint SOIC-08(NARROW,0.15")
pins: 2 VDD (power), 4 FEED (in), 5 GND (power), 6 HORNB (out), 7 HORNS (out), 8 EN (in)

## RECTIFIER_*_?SMA
designator D?, comment Diodes Incorporated US1GWF  Datasheet Diodes Incorporated US1M  Datasheet  (value not drawn)
MPN: US1M-13-F; GateName_1: G$1; SymbolName_1: DIODE-1; DeviceName: SMA; DeviceSetName: RECTIFIER_*_?; CURRENT: 1A; DKPN: US1M-FDITR-ND; MOPN: 621-US1M-F; VOLTAGE: 1000V; LibraryName: HyTechDevices; Package: SMA; MANUFACTURER: Diodes Incorporated
footprint SMA
pins: A, C

## RECTIFIER_*_?SOD123
designator D?, comment Diodes Incorporated US1GWF  Datasheet Diodes Incorporated US1M  Datasheet  (value not drawn)
MPN: US1GWF-7; GateName_1: G$1; SymbolName_1: DIODE-1; DeviceName: SOD123; DeviceSetName: RECTIFIER_*_?; CURRENT: 1A; DKPN: US1GWF-7DITR-ND; MOPN: 621-US1GWF-7; VOLTAGE: 400V; LibraryName: HyTechDevices; Package: SOD123F; MANUFACTURER: Diodes Incorporated
footprint SOD123F
pins: A, C

## RELAY_DPDT
designator K?, comment Dual Pole, Dual Throw Relay  Datasheet  (value not drawn)
MANUFACTURER: TE Connectivity; MPN: RT424009; GateName_1: G$1; SymbolName_1: RELAY_DPDT; DKPN: PB2021-ND; MOPN: 655-6-1393243-2; LibraryName: HyTechDevices; DeviceSetName: RELAY_DPDT; Package: RT*2*
footprint RT*2*
pins: 11 3 (io), 12 2 (io), 14 4 (io), 21 6 (io), 22 7 (io), 24 5 (io), A1 COIL+ (io), A2 COIL- (io)

## RELAY_DPDT_*SMT
designator K?, comment Dual Pole, Dual Throw Relay  Datasheet  (value not drawn)
MANUFACTURER: TE Connectivity; MPN: 3-1462039-7; GateName_1: G$1; SymbolName_1: RELAY_DPDT; DeviceName: SMT; DeviceSetName: RELAY_DPDT_*; DKPN: PB2077CT-ND; MOPN: 655-3-1462039-7; LibraryName: HyTechDevices; Package: IM*G
footprint IM*G
pins: 1 COIL+ (io), 2 (io), 3 (io), 4 (io), 5 (io), 6 (io), 7 (io), 8 COIL- (io)

## RELAY_DPDT_*TH
designator K?, comment Dual Pole, Dual Throw Relay  Datasheet  (value not drawn)
MANUFACTURER: TE Connectivity; MPN: RT424009; MPN: RT424024; GateName_1: G$1; SymbolName_1: RELAY_DPDT; DeviceName: TH; DeviceSetName: RELAY_DPDT_*; DKPN: PB2021-ND; MOPN: 655-6-1393243-2; DKPN: PB969-ND; MOPN: 655-RT424024; LibraryName: HyTechDevices; Package: RT*2*
footprint RT*2*
pins: 11 3 (io), 12 2 (io), 14 4 (io), 21 6 (io), 22 7 (io), 24 5 (io), A1 COIL+ (io), A2 COIL- (io)

## RELAY_SOLIDSTATE_NC_*DIP-4
designator K?, comment Normally Closed Solid-State Relay  Datasheet  (value not drawn)
MANUFACTURER: Panasonic Industrial Devices; MPN: AQY414EHA; GateName_1: G$1; SymbolName_1: RELAY_SOLIDSTATE_NC-1; DeviceName: DIP-4; DeviceSetName: RELAY_SOLIDSTATE_NC_*; DKPN: 255-2897-ND; MOPN: 769-AQY414EHA; LibraryName: HyTechDevices; Package: DIP-4
footprint DIP-4
pins: 1 CONTROL+, 2 CONTROL-, 3 CONTACT1 (io), 4 CONTACT2 (io)

## RELAY_SOLIDSTATE_NC_*DIP-4-AIRGAP
designator K?, comment Normally Closed Solid-State Relay  Datasheet  (value not drawn)
MANUFACTURER: Panasonic Industrial Devices; MPN: AQY414EHA; GateName_1: G$1; SymbolName_1: RELAY_SOLIDSTATE_NC-1; DeviceName: DIP-4-AIRGAP; DeviceSetName: RELAY_SOLIDSTATE_NC_*; DKPN: 255-2897-ND; MOPN: 769-AQY414EHA; LibraryName: HyTechDevices; Package: DIP-4_AIRGAP
footprint DIP-4_AIRGAP
pins: 1 CONTROL+, 2 CONTROL-, 3 CONTACT1 (io), 4 CONTACT2 (io)

## RELAY_SOLIDSTATE_NO_*AB38S-Q
designator K?, comment AQY214EHA Normally Open Solid State Relay  Datasheet  Crydom CMX Series Solid State Normally Open Relay  Datasheet AB38S-Q  Datasheet  CPC1020NTR  Datasheet  (value not drawn)
MANUFACTURER: Comus International; GateName_1: G$1; SymbolName_1: RELAY_SOLIDSTATE_NO-1; DeviceSetName: RELAY_SOLIDSTATE_NO_*; DKPN: 1835-1216-ND; VOLTAGE: 600V; DeviceName: AB38S-Q; LibraryName: HyTechDevices; Package: SOP-04; MPN: AB38S-Q
footprint SOP-04
pins: 1 CONTROL+, 2 CONTROL-, 3 CONTACT1 (io), 4 CONTACT2 (io)

## RELAY_SOLIDSTATE_NO_*AB38S-Q-AIRGAP
designator K?, comment AQY214EHA Normally Open Solid State Relay  Datasheet  Crydom CMX Series Solid State Normally Open Relay  Datasheet AB38S-Q  Datasheet  CPC1020NTR  Datasheet  (value not drawn)
MANUFACTURER: Comus International; GateName_1: G$1; SymbolName_1: RELAY_SOLIDSTATE_NO-1; DeviceName: AB38S-Q-AIRGAP; DeviceSetName: RELAY_SOLIDSTATE_NO_*; DKPN: 1835-1216-ND; VOLTAGE: 600V; LibraryName: HyTechDevices; Package: SOP-04-AIRGAP; MPN: AB38S-Q
footprint SOP-04-AIRGAP
pins: 1 CONTROL+, 2 CONTROL-, 3 CONTACT1 (io), 4 CONTACT2 (io)

## RELAY_SOLIDSTATE_NO_*CMX
designator K?, comment AQY214EHA Normally Open Solid State Relay  Datasheet  Crydom CMX Series Solid State Normally Open Relay  Datasheet AB38S-Q  Datasheet  CPC1020NTR  Datasheet  (value not drawn)
MPN: CMX60D20; GateName_1: G$1; SymbolName_1: RELAY_SOLIDSTATE_NO-1; DeviceSetName: RELAY_SOLIDSTATE_NO_*; DKPN: CC1666-ND; MOPN: 558-CMX60D20; DeviceName: CMX; LibraryName: HyTechDevices; Package: CRYDOM_CMX; MANUFACTURER: Crydom
footprint CRYDOM_CMX
pins: 1 CONTACT2 (io), 2 CONTACT1 (io), 3 CONTROL+, 4 CONTROL-

## RELAY_SOLIDSTATE_NO_*CPC1020NTR
designator K?, comment AQY214EHA Normally Open Solid State Relay  Datasheet  Crydom CMX Series Solid State Normally Open Relay  Datasheet AB38S-Q  Datasheet  CPC1020NTR  Datasheet  (value not drawn)
MANUFACTURER: IXYS Integrated Circuits Division; GateName_1: G$1; SymbolName_1: RELAY_SOLIDSTATE_NO-1; DeviceSetName: RELAY_SOLIDSTATE_NO_*; DKPN: CLA318CT-ND; MOPN: 849-CPC1020NTR; VOLTAGE: 30V; DeviceName: CPC1020NTR; LibraryName: HyTechDevices; Package: SOP-04; MPN: CPC1020NTR
footprint SOP-04
pins: 1 CONTROL+, 2 CONTROL-, 3 CONTACT1 (io), 4 CONTACT2 (io)

## RELAY_SOLIDSTATE_NO_*DIP-4
designator K?, comment AQY214EHA Normally Open Solid State Relay  Datasheet  Crydom CMX Series Solid State Normally Open Relay  Datasheet AB38S-Q  Datasheet  CPC1020NTR  Datasheet  (value not drawn)
MANUFACTURER: Panasonic; GateName_1: G$1; SymbolName_1: RELAY_SOLIDSTATE_NO-1; DeviceName: DIP-4; DeviceSetName: RELAY_SOLIDSTATE_NO_*; DKPN: 255-1436-5-ND; MOPN: 769-AQY214EHA; LibraryName: HyTechDevices; Package: DIP-4; MPN: AQY214EHA
footprint DIP-4
pins: 1 CONTROL+, 2 CONTROL-, 3 CONTACT1 (io), 4 CONTACT2 (io)

## RELAY_SOLIDSTATE_NO_*DIP-4-AIRGAP
designator K?, comment AQY214EHA Normally Open Solid State Relay  Datasheet  Crydom CMX Series Solid State Normally Open Relay  Datasheet AB38S-Q  Datasheet  CPC1020NTR  Datasheet  (value not drawn)
MANUFACTUER: Panasonic; GateName_1: G$1; SymbolName_1: RELAY_SOLIDSTATE_NO-1; DeviceName: DIP-4-AIRGAP; DeviceSetName: RELAY_SOLIDSTATE_NO_*; DKPN: 255-1436-5-ND; MOPN: 769-AQY214EHA; LibraryName: HyTechDevices; Package: DIP-4_AIRGAP; MPN: AQY214EHA
footprint DIP-4_AIRGAP
pins: 1 CONTROL+, 2 CONTROL-, 3 CONTACT1 (io), 4 CONTACT2 (io)

## RELAY_SPST_NC_POLARIZED_?*355
designator K?, comment Single Pole, Single Throw Normally Closed Polarized Relay  355x Series  D Series <\ul>  (value not drawn)
MANUFACTURER: Comus International; MPN: 3350-4275-126; MPN: 3350-4275-246; GateName_1: G$1; SymbolName_1: RELAY_SPST_NC_POLARIZED; DeviceName: 355; DeviceSetName: RELAY_SPST_NC_POLARIZED_?*; DKPN: 1835-1040-ND; DKPN: 1835-1041-ND; LibraryName: HyTechDevices; Package: 335X
footprint 335X
pins: 1 CONTACT1 (io), 2 COIL+ (io), 3 COIL- (io), 4 CONTACT2 (io)

## RELAY_SPST_NC_POLARIZED_?*D_
designator K?, comment Single Pole, Single Throw Normally Closed Polarized Relay  355x Series  D Series <\ul>  (value not drawn)
MANUFACTURER: Sensata-Cynergy3; MPN: DBR71210; MPN: DBR72410; GateName_1: G$1; SymbolName_1: RELAY_SPST_NC_POLARIZED; DeviceName: D_; DeviceSetName: RELAY_SPST_NC_POLARIZED_?*; DKPN: 725-1049-ND; MOPN: 285-DBR71210; DKPN: 725-1050-ND; MOPN: 285-DBR72410; LibraryName: HyTechDevices; Package: D
footprint D
pins: 1 CONTACT2 (io), 2 CONTACT1 (io), 3 COIL- (io), 4 COIL+ (io)

## RELAY_SPST_NO_?*355
designator K?, comment Single Pole, Single Throw Relay Normally Open  355x Series  D Series <\ul>  (value not drawn)
MANUFACTURER: Comus International; MPN: 3350-1275-126; MPN: 3350-1275-246; GateName_1: G$1; SymbolName_1: RELAY_SPST_NO; DeviceName: 355; DeviceSetName: RELAY_SPST_NO_?*; DKPN: 1835-1037-ND; DKPN: 1835-1038-ND; LibraryName: HyTechDevices; Package: 335X
footprint 335X
pins: 1 CONTACT1 (io), 2 COIL+ (io), 3 COIL- (io), 4 CONTACT2 (io)

## RELAY_SPST_NO_?*D_
designator K?, comment Single Pole, Single Throw Relay Normally Open  355x Series  D Series <\ul>  (value not drawn)
MANUFACTURER: Sensata-Cynergy3; MPN: DAR71210; MPN: DAR72410; GateName_1: G$1; SymbolName_1: RELAY_SPST_NO; DeviceName: D_; DeviceSetName: RELAY_SPST_NO_?*; DKPN: 725-1047-ND; MOPN: 285-DAR71210; DKPN: 725-1048-ND; MOPN: 285-DAR72410; LibraryName: HyTechDevices; Package: D
footprint D
pins: 1 CONTACT2 (io), 2 CONTACT1 (io), 3 COIL- (io), 4 COIL+ (io)